# Altium integrated library Connectors Rectangular.IntLib: 52 symbols
Pins are listed as number, name and electrical type; pins without a type are passive.

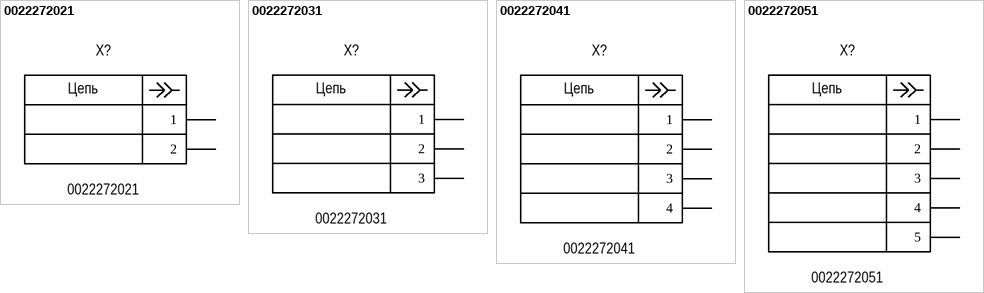
[diagram p0: symbols 0022272021 to 0022272051]

## 0022272021
designator X?
Connector Rectangular 2.54 M 2P Board WF; Manufacturer: Molex; Group: Mechanical; Pitch: 2.54mm; Positions: 2; Rows: 1; Current rating: 3.0A; Voltage rating: 250V; Placing: Vertical; Shrouding: 1 Wall; Connector type: Header; Series name: Micro-Fit; Dimension: 5.08mm x 5.90mm; Operating temperature: -25°C +85°C; Mounting type: Through hole; Package: Connector Rectangular 2.54 M 2P Board WF; Part name: 0022272021; Height: 11.40mm; Insulation color: White; Component: Connector Rectangular; Contact type: Male pin; Fastening type: Friction lock; Series: 2510; Connector style: Board
footprint Connector Rectangular 2.54 M 2P Board WF (Footprint not found)
pins: 1, 2
text: Цепь

## 0022272031
designator X?
Connector Rectangular 2.54 M 3P Board WF; Manufacturer: Molex; Group: Mechanical; Pitch: 2.54mm; Positions: 3; Rows: 1; Current rating: 3.0A; Voltage rating: 250V; Placing: Vertical; Shrouding: 1 Wall; Connector type: Header; Series name: Micro-Fit; Dimension: 7.62mm x 5.90mm; Operating temperature: -25°C +85°C; Mounting type: Through hole; Package: Connector Rectangular 2.54 M 3P Board WF; Part name: 0022272031; Height: 11.40mm; Insulation color: White; Component: Connector Rectangular; Contact type: Male pin; Fastening type: Friction lock; Series: 2510; Connector style: Board
footprint Connector Rectangular 2.54 M 3P Board WF (Footprint not found)
pins: 1, 2, 3
text: Цепь

## 0022272041
designator X?
Connector Rectangular 2.54 M 4P Board WF; Manufacturer: Molex; Group: Mechanical; Pitch: 2.54mm; Positions: 4; Rows: 1; Current rating: 3.0A; Voltage rating: 250V; Placing: Vertical; Shrouding: 1 Wall; Connector type: Header; Series name: Micro-Fit; Dimension: 10.16mm x 5.90mm; Operating temperature: -25°C +85°C; Mounting type: Through hole; Package: Connector Rectangular 2.54 M 4P Board WF; Part name: 0022272041; Height: 11.40mm; Insulation color: White; Component: Connector Rectangular; Contact type: Male pin; Fastening type: Friction lock; Series: 2510; Connector style: Board
footprint Connector Rectangular 2.54 M 4P Board WF (Footprint not found)
pins: 1, 2, 3, 4
text: Цепь

## 0022272051
designator X?
Connector Rectangular 2.54 M 5P Board WF; Manufacturer: Molex; Group: Mechanical; Pitch: 2.54mm; Positions: 5; Rows: 1; Current rating: 3.0A; Voltage rating: 250V; Placing: Vertical; Shrouding: 1 Wall; Connector type: Header; Series name: Micro-Fit; Dimension: 12.70mm x 5.90mm; Operating temperature: -25°C +85°C; Mounting type: Through hole; Package: Connector Rectangular 2.54 M 5P Board WF; Part name: 0022272051; Height: 11.40mm; Insulation color: White; Component: Connector Rectangular; Contact type: Male pin; Fastening type: Friction lock; Series: 2510; Connector style: Board
footprint Connector Rectangular 2.54 M 5P Board WF (Footprint not found)
pins: 1, 2, 3, 4, 5
text: Цепь


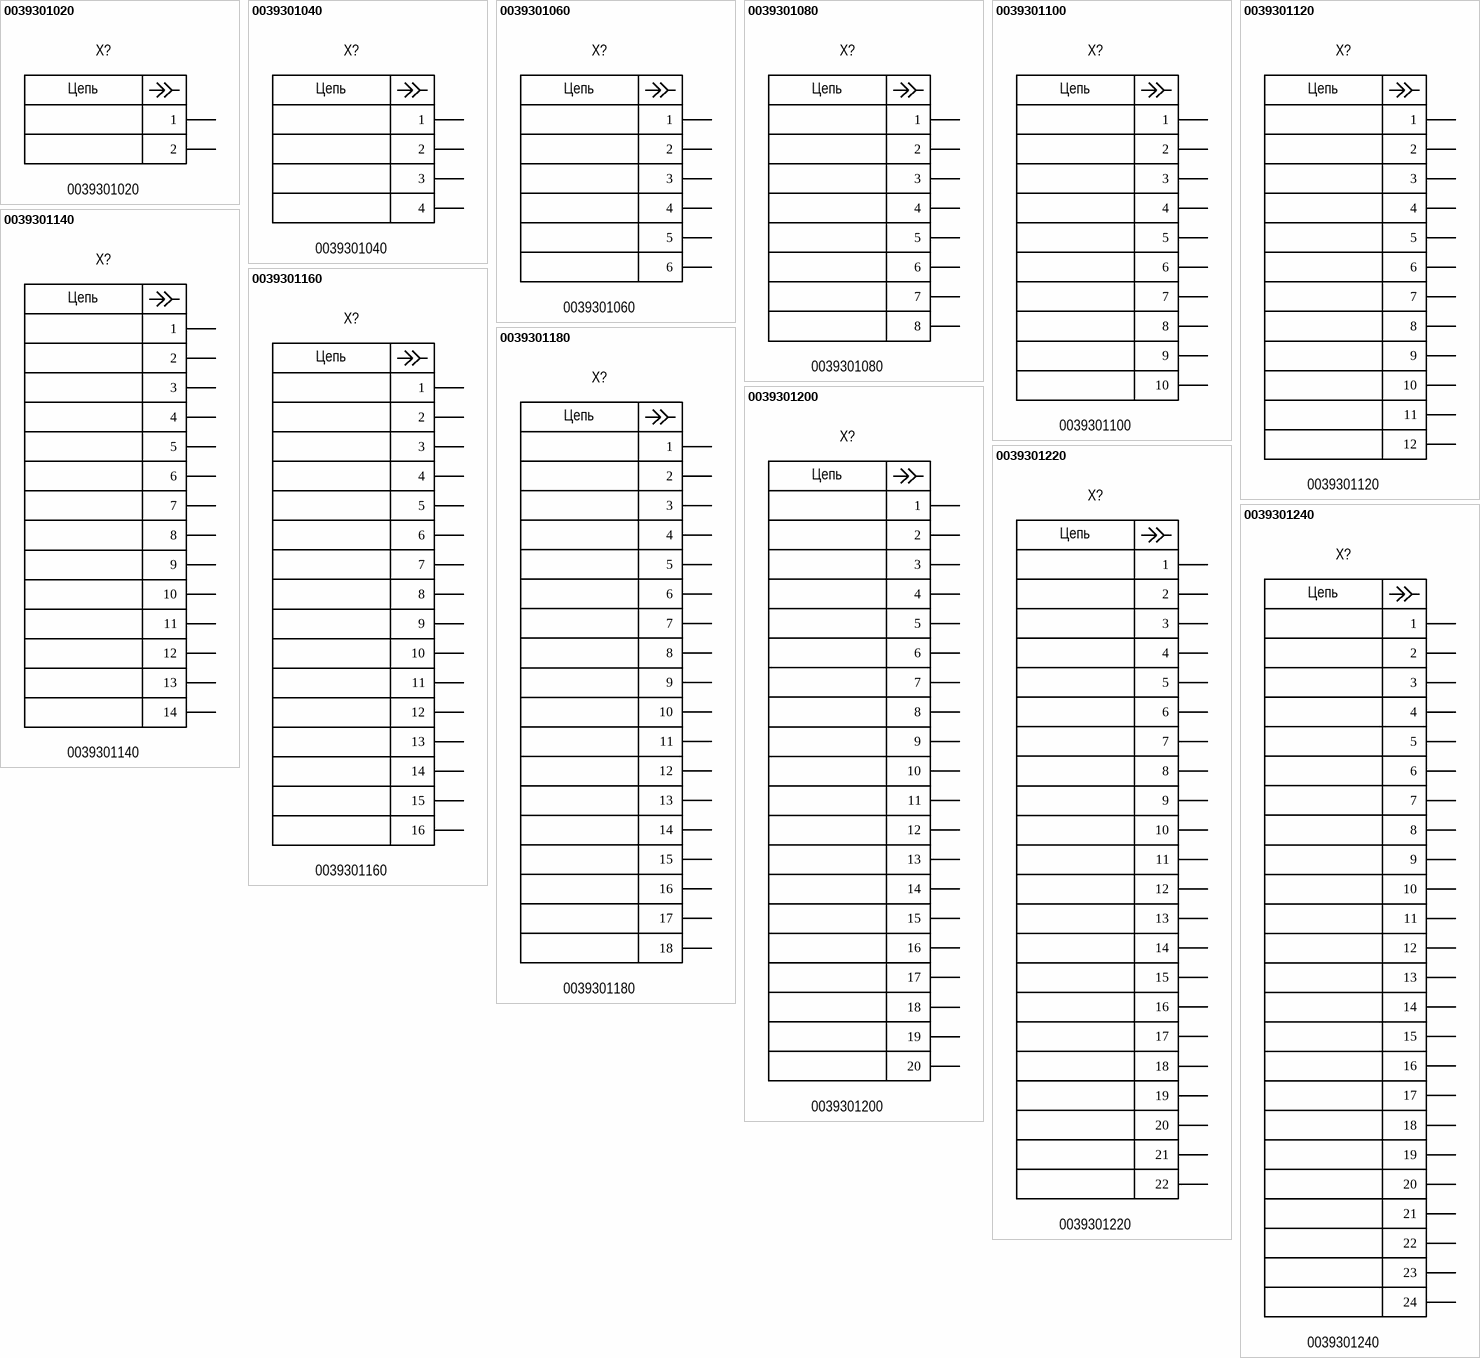
[diagram p1: symbols 0039301020 to 0039301240]

## 0039301020
designator X?
Connector Rectangular 4.20 M 2P2R Board MiniFit; Manufacturer: Molex; Group: Mechanical; Pitch: 4.20mm; Positions: 2; Current rating: 9.0A; Voltage rating: 300V; Placing: Right angle; Shrouding: Shrouded; Connector type: Header; Series name: Mini-Fit; Dimension: 5.40mm x 19.90mm; Operating temperature: -40°C +105°C; Mounting type: Through hole; Package: Connector Rectangular 4.20 M 2P2R Board MiniFit; Part name: 0039301020; Height: 9.60mm; Rows: 2; Insulation color: White; Component: Connector Rectangular; Contact type: Male pin; Fastening type: Locking ramp; Series: 5569; Connector style: Board
footprint Connector Rectangular 4.20 M 2P2R Board MiniFit (Footprint not found)
pins: 1, 2
text: Цепь

## 0039301040
designator X?
Connector Rectangular 4.20 M 4P2R Board MiniFit; Manufacturer: Molex; Group: Mechanical; Pitch: 4.20mm; Positions: 4; Rows: 2; Current rating: 9.0A; Voltage rating: 300V; Placing: Right angle; Shrouding: Shrouded; Connector type: Header; Series name: Mini-Fit; Dimension: 9.60mm x 19.90mm; Operating temperature: -40°C +105°C; Mounting type: Through hole; Package: Connector Rectangular 4.20 M 4P2R Board MiniFit; Part name: 0039301040; Height: 9.60mm; Insulation color: White; Component: Connector Rectangular; Contact type: Male pin; Fastening type: Locking ramp; Series: 5569; Connector style: Board
footprint Connector Rectangular 4.20 M 4P2R Board MiniFit (Footprint not found)
pins: 1, 2, 3, 4
text: Цепь

## 0039301060
designator X?
Connector Rectangular 4.20 M 6P2R Board MiniFit; Manufacturer: Molex; Group: Mechanical; Pitch: 4.20mm; Positions: 6; Rows: 2; Current rating: 9.0A; Voltage rating: 300V; Placing: Right angle; Shrouding: Shrouded; Connector type: Header; Series name: Mini-Fit; Dimension: 13.80mm x 19.90mm; Operating temperature: -40°C +105°C; Mounting type: Through hole; Package: Connector Rectangular 4.20 M 6P2R Board MiniFit; Part name: 0039301060; Height: 9.60mm; Insulation color: White; Component: Connector Rectangular; Contact type: Male pin; Fastening type: Locking ramp; Series: 5569; Connector style: Board
footprint Connector Rectangular 4.20 M 6P2R Board MiniFit (Footprint not found)
pins: 1, 2, 3, 4, 5, 6
text: Цепь

## 0039301080
designator X?
Connector Rectangular 4.20 M 8P2R Board MiniFit; Manufacturer: Molex; Group: Mechanical; Pitch: 4.20mm; Positions: 8; Rows: 2; Current rating: 9.0A; Voltage rating: 300V; Placing: Right angle; Shrouding: Shrouded; Connector type: Header; Series name: Mini-Fit; Dimension: 18.00mm x 19.90mm; Operating temperature: -40°C +105°C; Mounting type: Through hole; Package: Connector Rectangular 4.20 M 8P2R Board MiniFit; Part name: 0039301080; Height: 9.60mm; Insulation color: White; Component: Connector Rectangular; Contact type: Male pin; Fastening type: Locking ramp; Series: 5569; Connector style: Board
footprint Connector Rectangular 4.20 M 8P2R Board MiniFit (Footprint not found)
pins: 1, 2, 3, 4, 5, 6, 7, 8
text: Цепь

## 0039301100
designator X?
Connector Rectangular 4.20 M 10P2R Board MiniFit; Manufacturer: Molex; Group: Mechanical; Pitch: 4.20mm; Positions: 10; Rows: 2; Current rating: 9.0A; Voltage rating: 300V; Placing: Right angle; Shrouding: Shrouded; Connector type: Header; Series name: Mini-Fit; Dimension: 22.20mm x 19.90mm; Operating temperature: -40°C +105°C; Mounting type: Through hole; Package: Connector Rectangular 4.20 M 10P2R Board MiniFit; Part name: 0039301100; Height: 9.60mm; Insulation color: White; Component: Connector Rectangular; Contact type: Male pin; Fastening type: Locking ramp; Series: 5569; Connector style: Board
footprint Connector Rectangular 4.20 M 10P2R Board MiniFit (Footprint not found)
pins: 1, 2, 3, 4, 5, 6, 7, 8, 9, 10
text: Цепь

## 0039301120
designator X?
Connector Rectangular 4.20 M 12P2R Board MiniFit; Manufacturer: Molex; Group: Mechanical; Pitch: 4.20mm; Positions: 12; Rows: 2; Current rating: 9.0A; Voltage rating: 300V; Placing: Right angle; Shrouding: Shrouded; Connector type: Header; Series name: Mini-Fit; Dimension: 26.40mm x 19.90mm; Operating temperature: -40°C +105°C; Mounting type: Through hole; Package: Connector Rectangular 4.20 M 12P2R Board MiniFit; Part name: 0039301120; Height: 9.60mm; Insulation color: White; Component: Connector Rectangular; Contact type: Male pin; Fastening type: Locking ramp; Series: 5569; Connector style: Board
footprint Connector Rectangular 4.20 M 12P2R Board MiniFit (Footprint not found)
pins: 1, 2, 3, 4, 5, 6, 7, 8, 9, 10, 11, 12
text: Цепь

## 0039301140
designator X?
Connector Rectangular 4.20 M 14P2R Board MiniFit; Manufacturer: Molex; Group: Mechanical; Pitch: 4.20mm; Positions: 14; Rows: 2; Current rating: 9.0A; Voltage rating: 300V; Placing: Right angle; Shrouding: Shrouded; Connector type: Header; Series name: Mini-Fit; Dimension: 30.60mm x 19.90mm; Operating temperature: -40°C +105°C; Mounting type: Through hole; Package: Connector Rectangular 4.20 M 14P2R Board MiniFit; Part name: 0039301140; Height: 9.60mm; Insulation color: White; Component: Connector Rectangular; Contact type: Male pin; Fastening type: Locking ramp; Series: 5569; Connector style: Board
footprint Connector Rectangular 4.20 M 14P2R Board MiniFit (Footprint not found)
pins: 1, 2, 3, 4, 5, 6, 7, 8, 9, 10, 11, 12, 13, 14
text: Цепь

## 0039301160
designator X?
Connector Rectangular 4.20 M 16P2R Board MiniFit; Manufacturer: Molex; Group: Mechanical; Pitch: 4.20mm; Positions: 16; Rows: 2; Current rating: 9.0A; Voltage rating: 300V; Placing: Right angle; Shrouding: Shrouded; Connector type: Header; Series name: Mini-Fit; Dimension: 34.80mm x 19.90mm; Operating temperature: -40°C +105°C; Mounting type: Through hole; Package: Connector Rectangular 4.20 M 16P2R Board MiniFit; Part name: 0039301160; Height: 9.60mm; Insulation color: White; Component: Connector Rectangular; Contact type: Male pin; Fastening type: Locking ramp; Series: 5569; Connector style: Board
footprint Connector Rectangular 4.20 M 16P2R Board MiniFit (Footprint not found)
pins: 1, 2, 3, 4, 5, 6, 7, 8, 9, 10, 11, 12, 13, 14, 15, 16
text: Цепь

## 0039301180
designator X?
Connector Rectangular 4.20 M 18P2R Board MiniFit; Manufacturer: Molex; Group: Mechanical; Pitch: 4.20mm; Positions: 18; Rows: 2; Current rating: 9.0A; Voltage rating: 300V; Placing: Right angle; Shrouding: Shrouded; Connector type: Header; Series name: Mini-Fit; Dimension: 39.00mm x 19.90mm; Operating temperature: -40°C +105°C; Mounting type: Through hole; Package: Connector Rectangular 4.20 M 18P2R Board MiniFit; Part name: 0039301180; Height: 9.60mm; Insulation color: White; Component: Connector Rectangular; Contact type: Male pin; Fastening type: Locking ramp; Series: 5569; Connector style: Board
footprint Connector Rectangular 4.20 M 18P2R Board MiniFit (Footprint not found)
pins: 1, 2, 3, 4, 5, 6, 7, 8, 9, 10, 11, 12, 13, 14, 15, 16, 17, 18
text: Цепь

## 0039301200
designator X?
Connector Rectangular 4.20 M 20P2R Board MiniFit; Manufacturer: Molex; Group: Mechanical; Pitch: 4.20mm; Positions: 20; Rows: 2; Current rating: 9.0A; Voltage rating: 300V; Placing: Right angle; Shrouding: Shrouded; Connector type: Header; Series name: Mini-Fit; Dimension: 43.20mm x 19.90mm; Operating temperature: -40°C +105°C; Mounting type: Through hole; Package: Connector Rectangular 4.20 M 20P2R Board MiniFit; Part name: 0039301200; Height: 9.60mm; Insulation color: White; Component: Connector Rectangular; Contact type: Male pin; Fastening type: Locking ramp; Series: 5569; Connector style: Board
footprint Connector Rectangular 4.20 M 20P2R Board MiniFit (Footprint not found)
pins: 1, 2, 3, 4, 5, 6, 7, 8, 9, 10, 11, 12, 13, 14, 15, 16, 17, 18, 19, 20
text: Цепь

## 0039301220
designator X?
Connector Rectangular 4.20 M 22P2R Board MiniFit; Manufacturer: Molex; Group: Mechanical; Pitch: 4.20mm; Positions: 22; Rows: 2; Current rating: 9.0A; Voltage rating: 300V; Placing: Right angle; Shrouding: Shrouded; Connector type: Header; Series name: Mini-Fit; Dimension: 47.40mm x 19.90mm; Operating temperature: -40°C +105°C; Mounting type: Through hole; Package: Connector Rectangular 4.20 M 22P2R Board MiniFit; Part name: 0039301220; Height: 9.60mm; Insulation color: White; Component: Connector Rectangular; Contact type: Male pin; Fastening type: Locking ramp; Series: 5569; Connector style: Board
footprint Connector Rectangular 4.20 M 22P2R Board MiniFit (Footprint not found)
pins: 1, 2, 3, 4, 5, 6, 7, 8, 9, 10, 11, 12, 13, 14, 15, 16, 17, 18, 19, 20, 21, 22
text: Цепь

## 0039301240
designator X?
Connector Rectangular 4.20 M 24P2R Board MiniFit; Manufacturer: Molex; Group: Mechanical; Pitch: 4.20mm; Positions: 24; Rows: 2; Current rating: 9.0A; Voltage rating: 300V; Placing: Right angle; Shrouding: Shrouded; Connector type: Header; Series name: Mini-Fit; Dimension: 51.60mm x 19.90mm; Operating temperature: -40°C +105°C; Mounting type: Through hole; Package: Connector Rectangular 4.20 M 24P2R Board MiniFit; Part name: 0039301240; Height: 9.60mm; Insulation color: White; Component: Connector Rectangular; Contact type: Male pin; Fastening type: Locking ramp; Series: 5569; Connector style: Board
footprint Connector Rectangular 4.20 M 24P2R Board MiniFit (Footprint not found)
pins: 1, 2, 3, 4, 5, 6, 7, 8, 9, 10, 11, 12, 13, 14, 15, 16, 17, 18, 19, 20, 21, 22, 23, 24
text: Цепь


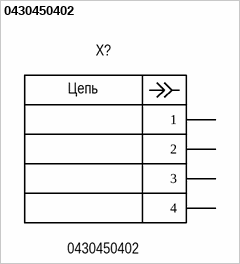
[diagram p2: symbol 0430450402]

## 0430450402
designator X?
Connector Rectangular 3.00 M 4P2R Board MicroFit; Manufacturer: Molex; Group: Mechanical; Pitch: 3.00mm; Positions: 4; Rows: 2; Current rating: 8.5A; Voltage rating: 300V; Placing: Right angle; Shrouding: Shrouded; Connector type: Header; Series name: Micro-Fit; Dimension: 9.65mm x 12.24mm; Operating temperature: -40°C +105°C; Mounting type: Through hole; Package: Connector Rectangular 3.00 M 4P2R Board MicroFit; Part name: 0430450402; Height: 7.37mm; Insulation color: Black; Component: Connector Rectangular; Contact type: Male pin; Fastening type: Locking ramp; Series: 43045; Connector style: Board
footprint Connector Rectangular 4.20 M 4P2R Board MicroFit (Footprint not found)
pins: 1, 2, 3, 4
text: Цепь


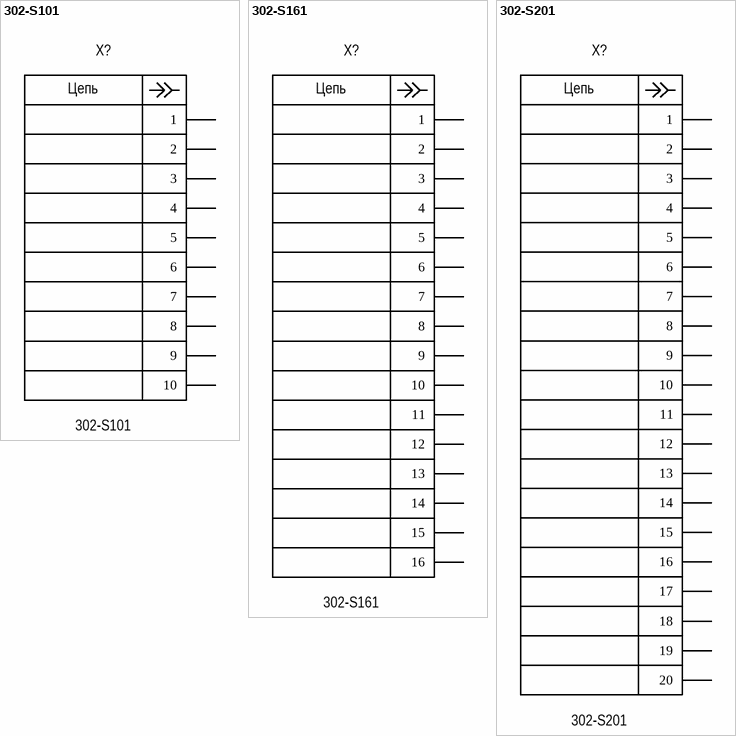
[diagram p3: symbols 302-S101 to 302-S201]

## 302-S101
designator X?
Connector Rectangular 2.54 M 10P2 Board IDC; Manufacturer: On Shore Technology; Group: Mechanical; Pitch: 2.54mm; Positions: 10; Rows: 2; Current rating: 3.0A; Voltage rating: 250V; Placing: Vertical; Shrouding: Shrouded; Connector type: Header; Dimension: 20.50mm x 9.10mm; Operating temperature: -40°C +105°C; Mounting type: Through hole; Package: Connector Rectangular 2.54 M 10P2 Board IDC; Part name: 302-S101; Height: 9.10mm; Insulation color: Black; Component: Connector Rectangular; Contact type: Male pin; Fastening type: Push-Pull; Series: IDC; Connector style: Board; Series name: IDC
footprint Connector Rectangular 2.54 M 10P2 Board IDC
pins: 1, 2, 3, 4, 5, 6, 7, 8, 9, 10
text: Цепь

## 302-S161
designator X?
Connector Rectangular 2.54 M 16P2 Board IDC; Manufacturer: On Shore Technology; Group: Mechanical; Pitch: 2.54mm; Positions: 16; Rows: 2; Current rating: 3.0A; Voltage rating: 250V; Placing: Vertical; Shrouding: Shrouded; Connector type: Header; Dimension: 28.00mm x 9.10mm; Operating temperature: -40°C +105°C; Mounting type: Through hole; Package: Connector Rectangular 2.54 M 16P2 Board IDC; Part name: 302-S161; Height: 9.10mm; Insulation color: Black; Component: Connector Rectangular; Contact type: Male pin; Fastening type: Push-Pull; Series: IDC; Connector style: Board; Series name: IDC
footprint Connector Rectangular 2.54 M 16P2 Board IDC (Footprint not found)
pins: 1, 2, 3, 4, 5, 6, 7, 8, 9, 10, 11, 12, 13, 14, 15, 16
text: Цепь

## 302-S201
designator X?
Connector Rectangular 2.54 M 20P2 Board IDC; Manufacturer: On Shore Technology; Group: Mechanical; Pitch: 2.54mm; Positions: 20; Rows: 2; Current rating: 3.0A; Voltage rating: 250V; Placing: Vertical; Shrouding: Shrouded; Connector type: Header; Dimension: 33.00mm x 9.10mm; Operating temperature: -40°C +105°C; Mounting type: Through hole; Package: Connector Rectangular 2.54 M 20P2 Board IDC; Part name: 302-S201; Height: 9.10mm; Insulation color: Black; Component: Connector Rectangular; Contact type: Male pin; Fastening type: Push-Pull; Series: IDC; Connector style: Board; Series name: IDC
footprint Connector Rectangular 2.54 M 20P2 Board IDC (Footprint not found)
pins: 1, 2, 3, 4, 5, 6, 7, 8, 9, 10, 11, 12, 13, 14, 15, 16, 17, 18, 19, 20
text: Цепь


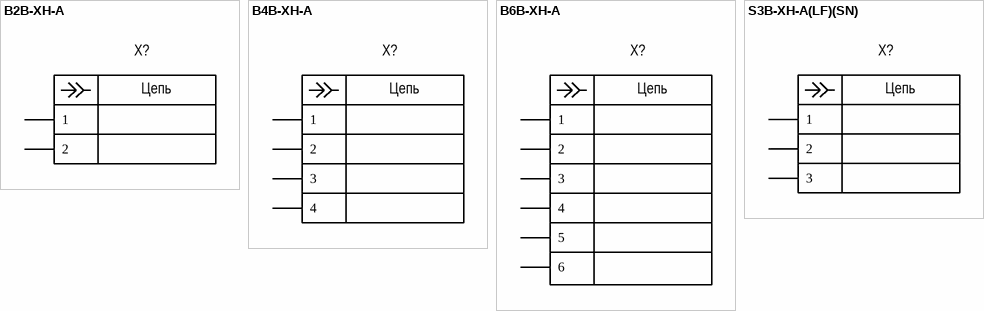
[diagram p4: symbols B2B-XH-A to S3B-XH-A(LF)(SN)]

## B2B-XH-A
designator X?  (value not drawn)
Connector Rectangular XH M 2P 2.50; Manufacturer: JST; Group: Mechanical; Pitch: 2.50mm; Positions: 2; Rows: 1; Current rating: 3A; Voltage rating: 250V; Dimension: 7.40mm x 5.750mm; Operating temperature: -25°C +85°C; Mounting type: Through hole; Package: B2B-XH-A; Part name: B2B-XH-A; Height: 7.00mm; Insulation color: Natural; Component: Connector Rectangular; Contact type: Male pin
footprint B2B-XH-AN (XH connector; Place for header 2pins 2.54 pitch)
pins: 1, 2
text: Цепь

## B4B-XH-A
designator X?  (value not drawn)
Connector Rectangular XH M 4P 2.50; Manufacturer: JST; Group: Mechanical; Pitch: 2.50mm; Positions: 4; Rows: 1; Current rating: 3A; Voltage rating: 250V; Dimension: 12.40mm x 5.750mm; Operating temperature: -25°C +85°C; Mounting type: Through hole; Package: B4B-XH-A; Part name: B4B-XH-A; Height: 7.00mm; Insulation color: Natural; Component: Connector Rectangular; Contact type: Male pin
footprint B4B-XH-AN (Footprint not found)
pins: 1, 2, 3, 4
text: Цепь

## B6B-XH-A
designator X?  (value not drawn)
Connector Rectangular XH M 6P 2.50; Manufacturer: JST; Group: Mechanical; Pitch: 2.50mm; Positions: 6; Rows: 1; Current rating: 3A; Voltage rating: 250V; Dimension: 17.40mm x 5.750mm; Operating temperature: -25°C +85°C; Mounting type: Through hole; Package: B6B-XH-A; Part name: B6B-XH-A; Height: 7.00mm; Insulation color: Natural; Component: Connector Rectangular; Contact type: Male pin
footprint B6B-XH-AN (Footprint not found)
pins: 1, 2, 3, 4, 5, 6
text: Цепь

## S3B-XH-A(LF)(SN)
designator X?  (value not drawn)
Connector Rectangular XH M 3P 2.50 RA; Manufacturer: JST; Group: Mechanical; Pitch: 2.50mm; Positions: 3; Rows: 1; Current rating: 3A; Voltage rating: 250V; Dimension: 9.80mm x 11.50mm; Operating temperature: -25°C +85°C; Mounting type: Through hole, right angle; Package: S3B-XH-A; Part name: S3B-XH-A(LF)(SN); Height: 6.10mm; Insulation color: Natural; Component: Connector Rectangular; Contact type: Male pin
footprint S3B-XH-A (XH connector; Place for header 3pins 2.54 pitch)
pins: 1, 2, 3
text: Цепь


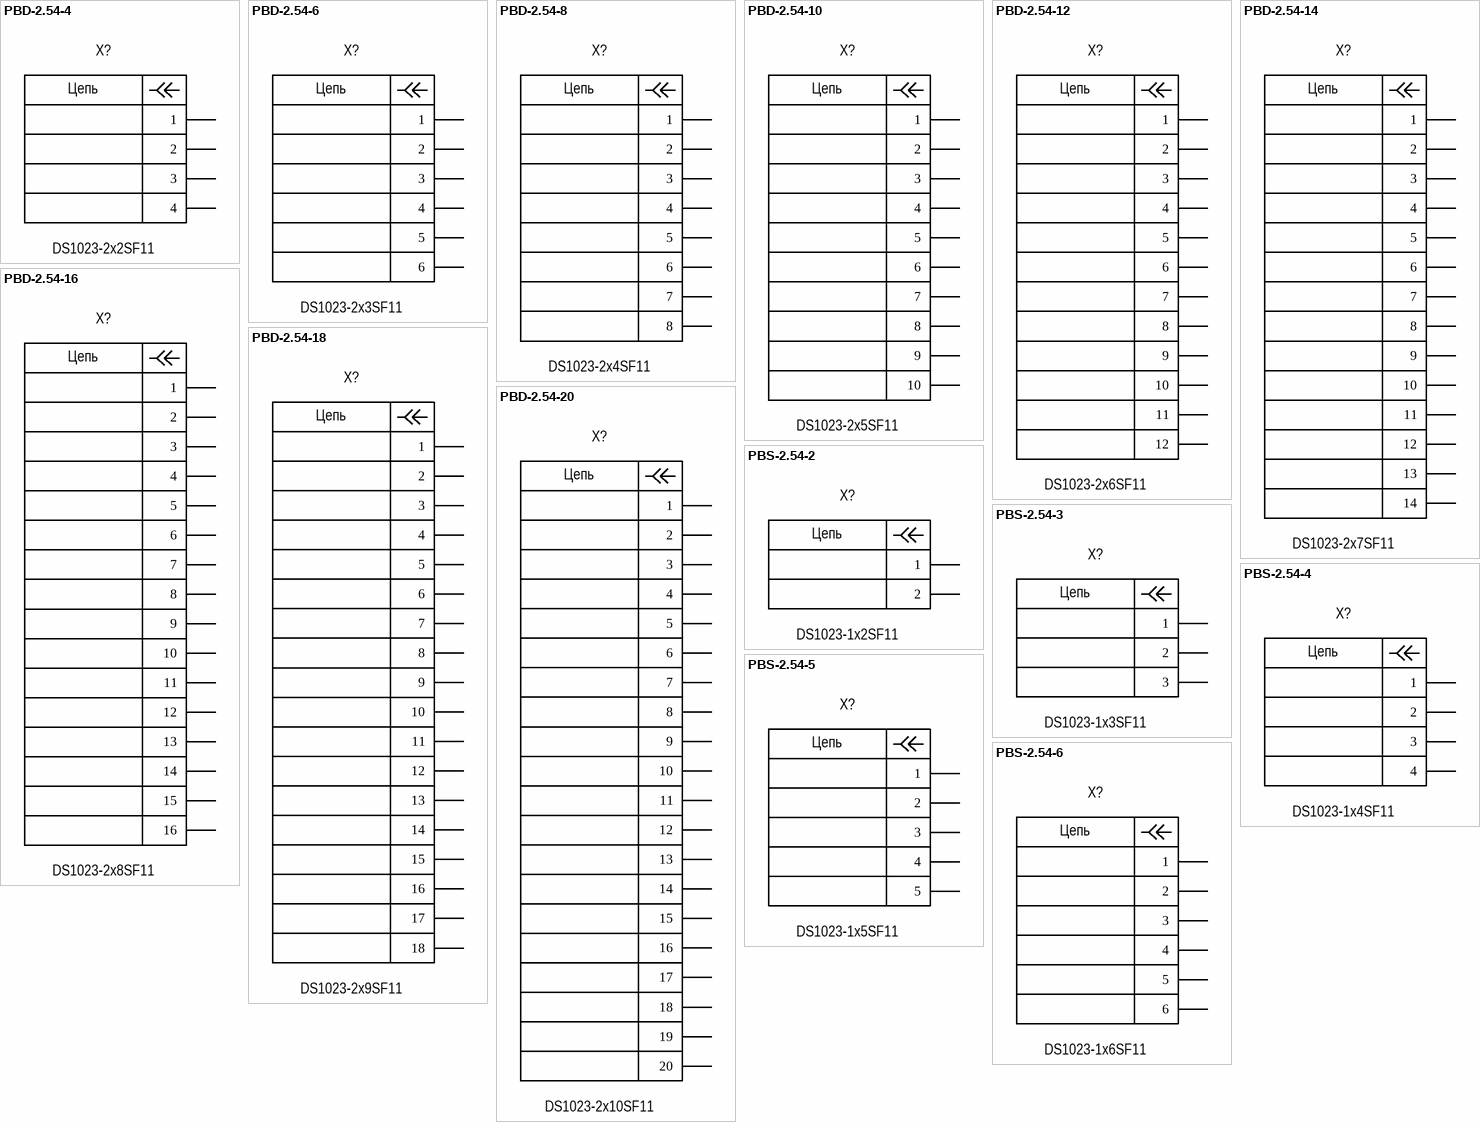
[diagram p5: symbols PBD-2.54-4 to PBS-2.54-6]

## PBD-2.54-4
designator X?, comment DS1023-2x2SF11
Connector Rectangular 2.54 F 4P2R Board PBD; Manufacturer: Connfly; Group: Mechanical; Pitch: 2.54mm; Positions: 4; Rows: 2; Current rating: 3.0A; Voltage rating: 250V; Placing: Vertical; Shrouding: Unshrouded; Connector type: Receptacle; Dimension: 5.08mm x 5.08mm; Operating temperature: -40°C +105°C; Mounting type: Through hole; Package: PBD-2.54-4; Part name: DS1023-2x2SF11; Height: 8.54mm; Insulation color: Black; Component: Connector Rectangular; Contact type: Female pin; Fastening type: Push-pull; Series: PBD; Connector style: Board; Series name: PBD
footprint PBD-2.54-4 (Footprint not found)
pins: 1, 2, 3, 4
text: Цепь

## PBD-2.54-6
designator X?, comment DS1023-2x3SF11
Connector Rectangular 2.54 F 6P2R Board PBD; Manufacturer: Connfly; Group: Mechanical; Pitch: 2.54mm; Positions: 6; Rows: 2; Current rating: 3.0A; Voltage rating: 250V; Placing: Vertical; Shrouding: Unshrouded; Connector type: Receptacle; Dimension: 5.08mm x 7.62mm; Operating temperature: -40°C +105°C; Mounting type: Through hole; Package: PBD-2.54-6; Part name: DS1023-2x3SF11; Height: 8.54mm; Insulation color: Black; Component: Connector Rectangular; Contact type: Female pin; Fastening type: Push-pull; Series: PBD; Connector style: Board; Series name: PBD
footprint PBD-2.54-6
pins: 1, 2, 3, 4, 5, 6
text: Цепь

## PBD-2.54-8
designator X?, comment DS1023-2x4SF11
Connector Rectangular 2.54 F 8P2R Board PBD; Manufacturer: Connfly; Group: Mechanical; Pitch: 2.54mm; Positions: 8; Rows: 2; Current rating: 3.0A; Voltage rating: 250V; Placing: Vertical; Shrouding: Unshrouded; Connector type: Receptacle; Dimension: 5.08mm x 10.16mm; Operating temperature: -40°C +105°C; Mounting type: Through hole; Package: PBD-2.54-8; Part name: DS1023-2x4SF11; Height: 8.54mm; Insulation color: Black; Component: Connector Rectangular; Contact type: Female pin; Fastening type: Push-pull; Series: PBD; Connector style: Board; Series name: PBD
footprint PBD-2.54-8
pins: 1, 2, 3, 4, 5, 6, 7, 8
text: Цепь

## PBD-2.54-10
designator X?, comment DS1023-2x5SF11
Connector Rectangular 2.54 F 10P2R Board PBD; Manufacturer: Connfly; Group: Mechanical; Pitch: 2.54mm; Positions: 10; Rows: 2; Current rating: 3.0A; Voltage rating: 250V; Placing: Vertical; Shrouding: Unshrouded; Connector type: Receptacle; Dimension: 5.08mm x 12.70mm; Operating temperature: -40°C +105°C; Mounting type: Through hole; Package: PBD-2.54-10; Part name: DS1023-2x5SF11; Height: 8.54mm; Insulation color: Black; Component: Connector Rectangular; Contact type: Female pin; Fastening type: Push-pull; Series: PBD; Connector style: Board; Series name: PBD
footprint PBD-2.54-10
pins: 1, 2, 3, 4, 5, 6, 7, 8, 9, 10
text: Цепь

## PBD-2.54-12
designator X?, comment DS1023-2x6SF11
Connector Rectangular 2.54 F 12P2R Board PBD; Manufacturer: Connfly; Group: Mechanical; Pitch: 2.54mm; Positions: 12; Rows: 2; Current rating: 3.0A; Voltage rating: 250V; Placing: Vertical; Shrouding: Unshrouded; Connector type: Receptacle; Dimension: 5.08mm x 15.25mm; Operating temperature: -40°C +105°C; Mounting type: Through hole; Package: PBD-2.54-12; Part name: DS1023-2x6SF11; Height: 8.54mm; Insulation color: Black; Component: Connector Rectangular; Contact type: Female pin; Fastening type: Push-pull; Series: PBD; Connector style: Board; Series name: PBD
footprint PBD-2.54-12
pins: 1, 2, 3, 4, 5, 6, 7, 8, 9, 10, 11, 12
text: Цепь

## PBD-2.54-14
designator X?, comment DS1023-2x7SF11
Connector Rectangular 2.54 F 14P2R Board PBD; Manufacturer: Connfly; Group: Mechanical; Pitch: 2.54mm; Positions: 14; Rows: 2; Current rating: 3.0A; Voltage rating: 250V; Placing: Vertical; Shrouding: Unshrouded; Connector type: Receptacle; Dimension: 5.08mm x 17.78mm; Operating temperature: -40°C +105°C; Mounting type: Through hole; Package: PBD-2.54-14; Part name: DS1023-2x7SF11; Height: 8.54mm; Insulation color: Black; Component: Connector Rectangular; Contact type: Female pin; Fastening type: Push-pull; Series: PBD; Connector style: Board; Series name: PBD
footprint PBD-2.54-14
pins: 1, 2, 3, 4, 5, 6, 7, 8, 9, 10, 11, 12, 13, 14
text: Цепь

## PBD-2.54-16
designator X?, comment DS1023-2x8SF11
Connector Rectangular 2.54 F 16P2R Board PBD; Manufacturer: Connfly; Group: Mechanical; Pitch: 2.54mm; Positions: 16; Rows: 2; Current rating: 3.0A; Voltage rating: 250V; Placing: Vertical; Shrouding: Unshrouded; Connector type: Receptacle; Dimension: 5.08mm x 20.32mm; Operating temperature: -40°C +105°C; Mounting type: Through hole; Package: PBD-2.54-16; Part name: DS1023-2x8SF11; Height: 8.54mm; Insulation color: Black; Component: Connector Rectangular; Contact type: Female pin; Fastening type: Push-pull; Series: PBD; Connector style: Board; Series name: PBD
footprint PBD-2.54-16
pins: 1, 2, 3, 4, 5, 6, 7, 8, 9, 10, 11, 12, 13, 14, 15, 16
text: Цепь

## PBD-2.54-18
designator X?, comment DS1023-2x9SF11
Connector Rectangular 2.54 F 18P2R Board PBD; Manufacturer: Connfly; Group: Mechanical; Pitch: 2.54mm; Positions: 18; Rows: 2; Current rating: 3.0A; Voltage rating: 250V; Placing: Vertical; Shrouding: Unshrouded; Connector type: Receptacle; Dimension: 5.08mm x 22.86mm; Operating temperature: -40°C +105°C; Mounting type: Through hole; Package: PBD-2.54-18; Part name: DS1023-2x9SF11; Height: 8.54mm; Insulation color: Black; Component: Connector Rectangular; Contact type: Female pin; Fastening type: Push-pull; Series: PBD; Connector style: Board; Series name: PBD
footprint PBD-2.54-18
pins: 1, 2, 3, 4, 5, 6, 7, 8, 9, 10, 11, 12, 13, 14, 15, 16, 17, 18
text: Цепь

## PBD-2.54-20
designator X?, comment DS1023-2x10SF11
Connector Rectangular 2.54 F 20P2R Board PBD; Manufacturer: Connfly; Group: Mechanical; Pitch: 2.54mm; Positions: 20; Rows: 2; Current rating: 3.0A; Voltage rating: 250V; Placing: Vertical; Shrouding: Unshrouded; Connector type: Receptacle; Dimension: 5.08mm x 25.40mm; Operating temperature: -40°C +105°C; Mounting type: Through hole; Package: PBD-2.54-20; Part name: DS1023-2x10SF11; Height: 8.54mm; Insulation color: Black; Component: Connector Rectangular; Contact type: Female pin; Fastening type: Push-pull; Series: PBD; Connector style: Board; Series name: PBD
footprint PBD-2.54-20
pins: 1, 2, 3, 4, 5, 6, 7, 8, 9, 10, 11, 12, 13, 14, 15, 16, 17, 18, 19, 20
text: Цепь

## PBS-2.54-2
designator X?, comment DS1023-1x2SF11
Connector Rectangular 2.54 F 2P Board PBS; Manufacturer: Connfly; Group: Mechanical; Pitch: 2.54mm; Positions: 2; Rows: 1; Current rating: 3.0A; Voltage rating: 250V; Placing: Vertical; Shrouding: Unshrouded; Connector type: Receptacle; Dimension: 2.54mm x 5.08mm; Operating temperature: -40°C +105°C; Mounting type: Through hole; Package: PBS-2.54-2; Part name: DS1023-1x2SF11; Height: 8.54mm; Insulation color: Black; Component: Connector Rectangular; Contact type: Female pin; Fastening type: Push-pull; Series: PBS; Connector style: Board; Series name: PBS
footprint PBS-2.54-2
pins: 1, 2
text: Цепь

## PBS-2.54-3
designator X?, comment DS1023-1x3SF11
Connector Rectangular 2.54 F 3P Board PBS; Manufacturer: Connfly; Group: Mechanical; Pitch: 2.54mm; Positions: 3; Rows: 1; Current rating: 3.0A; Voltage rating: 250V; Placing: Vertical; Shrouding: Unshrouded; Connector type: Receptacle; Dimension: 2.54mm x 7.62mm; Operating temperature: -40°C +105°C; Mounting type: Through hole; Package: PBS-2.54-3; Part name: DS1023-1x3SF11; Height: 8.54mm; Insulation color: Black; Component: Connector Rectangular; Contact type: Female pin; Fastening type: Push-pull; Series: PBS; Connector style: Board; Series name: PBS
footprint PBS-2.54-3
pins: 1, 2, 3
text: Цепь

## PBS-2.54-4
designator X?, comment DS1023-1x4SF11
Connector Rectangular 2.54 F 4P Board PBS; Manufacturer: Connfly; Group: Mechanical; Pitch: 2.54mm; Positions: 4; Rows: 1; Current rating: 3.0A; Voltage rating: 250V; Placing: Vertical; Shrouding: Unshrouded; Connector type: Receptacle; Dimension: 2.54mm x 10.16mm; Operating temperature: -40°C +105°C; Mounting type: Through hole; Package: PBS-2.54-4; Part name: DS1023-1x4SF11; Height: 8.54mm; Insulation color: Black; Component: Connector Rectangular; Contact type: Female pin; Fastening type: Push-pull; Series: PBS; Connector style: Board; Series name: PBS
footprint PBS-2.54-4
pins: 1, 2, 3, 4
text: Цепь

## PBS-2.54-5
designator X?, comment DS1023-1x5SF11
Connector Rectangular 2.54 F 5P Board PBS; Manufacturer: Connfly; Group: Mechanical; Pitch: 2.54mm; Positions: 5; Rows: 1; Current rating: 3.0A; Voltage rating: 250V; Placing: Vertical; Shrouding: Unshrouded; Connector type: Receptacle; Dimension: 2.54mm x 12.70mm; Operating temperature: -40°C +105°C; Mounting type: Through hole; Package: PBS-2.54-5; Part name: DS1023-1x5SF11; Height: 8.54mm; Insulation color: Black; Component: Connector Rectangular; Contact type: Female pin; Fastening type: Push-pull; Series: PBS; Connector style: Board; Series name: PBS
footprint PBS-2.54-5
pins: 1, 2, 3, 4, 5
text: Цепь

## PBS-2.54-6
designator X?, comment DS1023-1x6SF11
Connector Rectangular 2.54 F 6P Board PBS; Manufacturer: Connfly; Group: Mechanical; Pitch: 2.54mm; Positions: 6; Rows: 1; Current rating: 3.0A; Voltage rating: 250V; Placing: Vertical; Shrouding: Unshrouded; Connector type: Receptacle; Dimension: 2.54mm x 15.24mm; Operating temperature: -40°C +105°C; Mounting type: Through hole; Package: PBS-2.54-6; Part name: DS1023-1x6SF11; Height: 8.54mm; Insulation color: Black; Component: Connector Rectangular; Contact type: Female pin; Fastening type: Push-pull; Series: PBS; Connector style: Board; Series name: PBS
footprint PBS-2.54-6
pins: 1, 2, 3, 4, 5, 6
text: Цепь


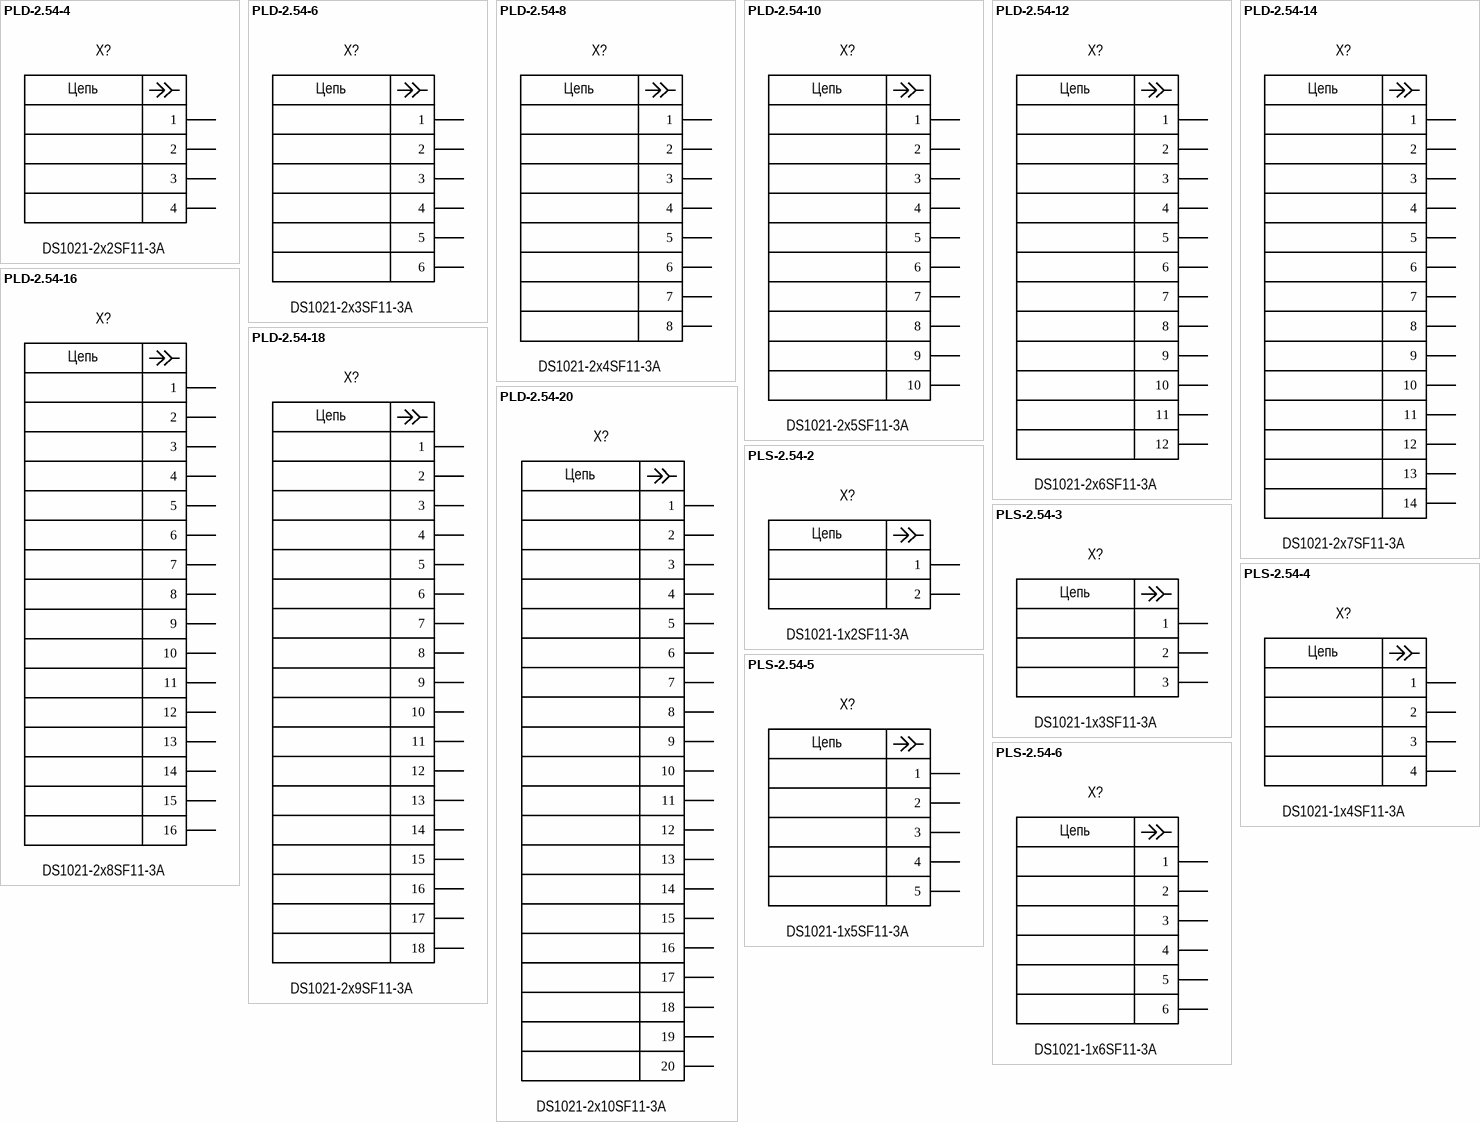
[diagram p6: symbols PLD-2.54-4 to PLS-2.54-6]

## PLD-2.54-4
designator X?, comment DS1021-2x2SF11-3A
Connector Rectangular 2.54 M 4P2R Board PLD; Manufacturer: Connfly; Group: Mechanical; Pitch: 2.54mm; Positions: 4; Rows: 2; Current rating: 3.0A; Voltage rating: 250V; Placing: Vertical; Shrouding: Unshrouded; Connector type: Header; Dimension: 5.08mm x 5.08mm; Operating temperature: -40°C +105°C; Mounting type: Through hole; Package: PLD-2.54-4; Part name: DS1021-2x2SF11-3A; Height: 8.54mm; Insulation color: Black; Component: Connector Rectangular; Contact type: Male pin; Fastening type: Push-pull; Series: PLD; Connector style: Board; Series name: PLD
footprint PLD-2.54-4
pins: 1, 2, 3, 4
text: Цепь

## PLD-2.54-6
designator X?, comment DS1021-2x3SF11-3A
Connector Rectangular 2.54 M 6P2R Board PLD; Manufacturer: Connfly; Group: Mechanical; Pitch: 2.54mm; Positions: 6; Rows: 2; Current rating: 3.0A; Voltage rating: 250V; Placing: Vertical; Shrouding: Unshrouded; Connector type: Header; Dimension: 5.08mm x 7.62mm; Operating temperature: -40°C +105°C; Mounting type: Through hole; Package: PLD-2.54-6; Part name: DS1021-2x3SF11-3A; Height: 8.54mm; Insulation color: Black; Component: Connector Rectangular; Contact type: Male pin; Fastening type: Push-pull; Series: PLD; Connector style: Board; Series name: PLD
footprint PLD-2.54-6
pins: 1, 2, 3, 4, 5, 6
text: Цепь

## PLD-2.54-8
designator X?, comment DS1021-2x4SF11-3A
Connector Rectangular 2.54 M 8P2R Board PLD; Manufacturer: Connfly; Group: Mechanical; Pitch: 2.54mm; Positions: 8; Rows: 2; Current rating: 3.0A; Voltage rating: 250V; Placing: Vertical; Shrouding: Unshrouded; Connector type: Header; Dimension: 5.08mm x 10.16mm; Operating temperature: -40°C +105°C; Mounting type: Through hole; Package: PLD-2.54-8; Part name: DS1021-2x4SF11-3A; Height: 8.54mm; Insulation color: Black; Component: Connector Rectangular; Contact type: Male pin; Fastening type: Push-pull; Series: PLD; Connector style: Board; Series name: PLD
footprint PLD-2.54-8
pins: 1, 2, 3, 4, 5, 6, 7, 8
text: Цепь

## PLD-2.54-10
designator X?, comment DS1021-2x5SF11-3A
Connector Rectangular 2.54 M 10P2R Board PLD; Manufacturer: Connfly; Group: Mechanical; Pitch: 2.54mm; Positions: 10; Rows: 2; Current rating: 3.0A; Voltage rating: 250V; Placing: Vertical; Shrouding: Unshrouded; Connector type: Header; Dimension: 5.08mm x 12.70mm; Operating temperature: -40°C +105°C; Mounting type: Through hole; Package: PLD-2.54-10; Part name: DS1021-2x5SF11-3A; Height: 8.54mm; Insulation color: Black; Component: Connector Rectangular; Contact type: Male pin; Fastening type: Push-pull; Series: PLD; Connector style: Board; Series name: PLD
footprint PLD-2.54-10
pins: 1, 2, 3, 4, 5, 6, 7, 8, 9, 10
text: Цепь

## PLD-2.54-12
designator X?, comment DS1021-2x6SF11-3A
Connector Rectangular 2.54 M 12P2R Board PLD; Manufacturer: Connfly; Group: Mechanical; Pitch: 2.54mm; Positions: 12; Rows: 2; Current rating: 3.0A; Voltage rating: 250V; Placing: Vertical; Shrouding: Unshrouded; Connector type: Header; Dimension: 5.08mm x 15.25mm; Operating temperature: -40°C +105°C; Mounting type: Through hole; Package: PLD-2.54-12; Part name: DS1021-2x6SF11-3A; Height: 8.54mm; Insulation color: Black; Component: Connector Rectangular; Contact type: Male pin; Fastening type: Push-pull; Series: PLD; Connector style: Board; Series name: PLD
footprint PLD-2.54-12
pins: 1, 2, 3, 4, 5, 6, 7, 8, 9, 10, 11, 12
text: Цепь

## PLD-2.54-14
designator X?, comment DS1021-2x7SF11-3A
Connector Rectangular 2.54 M 14P2R Board PLD; Manufacturer: Connfly; Group: Mechanical; Pitch: 2.54mm; Positions: 14; Rows: 2; Current rating: 3.0A; Voltage rating: 250V; Placing: Vertical; Shrouding: Unshrouded; Connector type: Header; Dimension: 5.08mm x 17.78mm; Operating temperature: -40°C +105°C; Mounting type: Through hole; Package: PLD-2.54-14; Part name: DS1021-2x7SF11-3A; Height: 8.54mm; Insulation color: Black; Component: Connector Rectangular; Contact type: Male pin; Fastening type: Push-pull; Series: PLD; Connector style: Board; Series name: PLD
footprint PLD-2.54-14
pins: 1, 2, 3, 4, 5, 6, 7, 8, 9, 10, 11, 12, 13, 14
text: Цепь

## PLD-2.54-16
designator X?, comment DS1021-2x8SF11-3A
Connector Rectangular 2.54 M 16P2R Board PLD; Manufacturer: Connfly; Group: Mechanical; Pitch: 2.54mm; Positions: 16; Rows: 2; Current rating: 3.0A; Voltage rating: 250V; Placing: Vertical; Shrouding: Unshrouded; Connector type: Header; Dimension: 5.08mm x 20.32mm; Operating temperature: -40°C +105°C; Mounting type: Through hole; Package: PLD-2.54-16; Part name: DS1021-2x8SF11-3A; Height: 8.54mm; Insulation color: Black; Component: Connector Rectangular; Contact type: Male pin; Fastening type: Push-pull; Series: PLD; Connector style: Board; Series name: PLD
footprint PLD-2.54-16
pins: 1, 2, 3, 4, 5, 6, 7, 8, 9, 10, 11, 12, 13, 14, 15, 16
text: Цепь

## PLD-2.54-18
designator X?, comment DS1021-2x9SF11-3A
Connector Rectangular 2.54 M 18P2R Board PLD; Manufacturer: Connfly; Group: Mechanical; Pitch: 2.54mm; Positions: 18; Rows: 2; Current rating: 3.0A; Voltage rating: 250V; Placing: Vertical; Shrouding: Unshrouded; Connector type: Header; Dimension: 5.08mm x 22.86mm; Operating temperature: -40°C +105°C; Mounting type: Through hole; Package: PLD-2.54-18; Part name: DS1021-2x9SF11-3A; Height: 8.54mm; Insulation color: Black; Component: Connector Rectangular; Contact type: Male pin; Fastening type: Push-pull; Series: PLD; Connector style: Board; Series name: PLD
footprint PLD-2.54-18
pins: 1, 2, 3, 4, 5, 6, 7, 8, 9, 10, 11, 12, 13, 14, 15, 16, 17, 18
text: Цепь

## PLD-2.54-20
designator X?, comment DS1021-2x10SF11-3A
Connector Rectangular 2.54 M 20P2R Board PLD; Manufacturer: Connfly; Group: Mechanical; Pitch: 2.54mm; Positions: 20; Rows: 2; Current rating: 3.0A; Voltage rating: 250V; Placing: Vertical; Shrouding: Unshrouded; Connector type: Header; Dimension: 5.08mm x 25.40mm; Operating temperature: -40°C +105°C; Mounting type: Through hole; Package: PLD-2.54-20; Part name: DS1021-2x10SF11-3A; Height: 8.54mm; Insulation color: Black; Component: Connector Rectangular; Contact type: Male pin; Fastening type: Push-pull; Series: PLD; Connector style: Board; Series name: PLD
footprint PLD-2.54-20
pins: 1, 2, 3, 4, 5, 6, 7, 8, 9, 10, 11, 12, 13, 14, 15, 16, 17, 18, 19, 20
text: Цепь

## PLS-2.54-2
designator X?, comment DS1021-1x2SF11-3A
Connector Rectangular 2.54 M 2P Board PLS; Manufacturer: Connfly; Group: Mechanical; Pitch: 2.54mm; Positions: 2; Rows: 1; Current rating: 3.0A; Voltage rating: 250V; Placing: Vertical; Shrouding: Unshrouded; Connector type: Header; Dimension: 2.54mm x 5.08mm; Operating temperature: -40°C +105°C; Mounting type: Through hole; Package: PLS-2.54-2; Part name: DS1021-1x2SF11-3A; Height: 8.54mm; Insulation color: Black; Component: Connector Rectangular; Contact type: Male pin; Fastening type: Push-pull; Series: PLS; Connector style: Board; Series name: PLS
footprint PLS-2.54-2 (Footprint not found)
pins: 1, 2
text: Цепь

## PLS-2.54-3
designator X?, comment DS1021-1x3SF11-3A
Connector Rectangular 2.54 M 3P Board PLS; Manufacturer: Connfly; Group: Mechanical; Pitch: 2.54mm; Positions: 3; Rows: 1; Current rating: 3.0A; Voltage rating: 250V; Placing: Vertical; Shrouding: Unshrouded; Connector type: Header; Dimension: 2.54mm x 7.62mm; Operating temperature: -40°C +105°C; Mounting type: Through hole; Package: PLS-2.54-3; Part name: DS1021-1x3SF11-3A; Height: 8.54mm; Insulation color: Black; Component: Connector Rectangular; Contact type: Male pin; Fastening type: Push-pull; Series: PLS; Connector style: Board; Series name: PLS
footprint PLS-2.54-3
pins: 1, 2, 3
text: Цепь

## PLS-2.54-4
designator X?, comment DS1021-1x4SF11-3A
Connector Rectangular 2.54 M 4P Board PLS; Manufacturer: Connfly; Group: Mechanical; Pitch: 2.54mm; Positions: 4; Rows: 1; Current rating: 3.0A; Voltage rating: 250V; Placing: Vertical; Shrouding: Unshrouded; Connector type: Header; Dimension: 2.54mm x 10.16mm; Operating temperature: -40°C +105°C; Mounting type: Through hole; Package: PLS-2.54-4; Part name: DS1021-1x4SF11-3A; Height: 8.54mm; Insulation color: Black; Component: Connector Rectangular; Contact type: Male pin; Fastening type: Push-pull; Series: PLS; Connector style: Board; Series name: PLS
footprint PLS-2.54-4
pins: 1, 2, 3, 4
text: Цепь

## PLS-2.54-5
designator X?, comment DS1021-1x5SF11-3A
Connector Rectangular 2.54 M 5P Board PLS; Manufacturer: Connfly; Group: Mechanical; Pitch: 2.54mm; Positions: 5; Rows: 1; Current rating: 3.0A; Voltage rating: 250V; Placing: Vertical; Shrouding: Unshrouded; Connector type: Header; Dimension: 2.54mm x 12.70mm; Operating temperature: -40°C +105°C; Mounting type: Through hole; Package: PLS-2.54-5; Part name: DS1021-1x5SF11-3A; Height: 8.54mm; Insulation color: Black; Component: Connector Rectangular; Contact type: Male pin; Fastening type: Push-pull; Series: PLS; Connector style: Board; Series name: PLS
footprint PLS-2.54-5
pins: 1, 2, 3, 4, 5
text: Цепь

## PLS-2.54-6
designator X?, comment DS1021-1x6SF11-3A
Connector Rectangular 2.54 M 6P Board PLS; Manufacturer: Connfly; Group: Mechanical; Pitch: 2.54mm; Positions: 6; Rows: 1; Current rating: 3.0A; Voltage rating: 250V; Placing: Vertical; Shrouding: Unshrouded; Connector type: Header; Dimension: 2.54mm x 15.24mm; Operating temperature: -40°C +105°C; Mounting type: Through hole; Package: PLS-2.54-6; Part name: DS1021-1x6SF11-3A; Height: 8.54mm; Insulation color: Black; Component: Connector Rectangular; Contact type: Male pin; Fastening type: Push-pull; Series: PLS; Connector style: Board; Series name: PLS
footprint PLS-2.54-6
pins: 1, 2, 3, 4, 5, 6
text: Цепь